# EAGLE library part IF_7PIN (library Connectors)
7-pin インターフェース
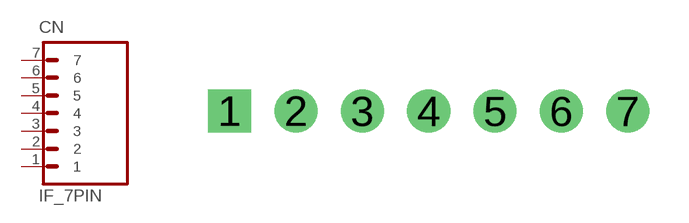
[diagram p3: symbol with the pads of HEADER_7PIN; footprint HEADER_7PIN]

Designator prefix CN

## IF_7PIN  [HEADER_7PIN]
1  1  pas
2  2  pas
3  3  pas
4  4  pas
5  5  pas
6  6  pas
7  7  pas

## Footprint HEADER_7PIN (pad centres in mm)
drill 0.889 pad 1.651 square: 1 0,0
drill 0.889 pad 1.651: 2 2.54,0; 3 5.08,0; 4 7.62,0; 5 10.16,0; 6 12.7,0; 7 15.24,0